# Altium footprint library ip_phone.PcbLib: 68 footprints (part 1 of 5)
Each footprint in its own frame and in the unit in brackets; x right, y up, seen from the top. Pads: shape width x height; smd on the part's side, far side on the other; paste and mask are expansions set on the pad; w line width, h text height; cw(c..) or ccw(c..) is an arc to the next point about the centre after c.
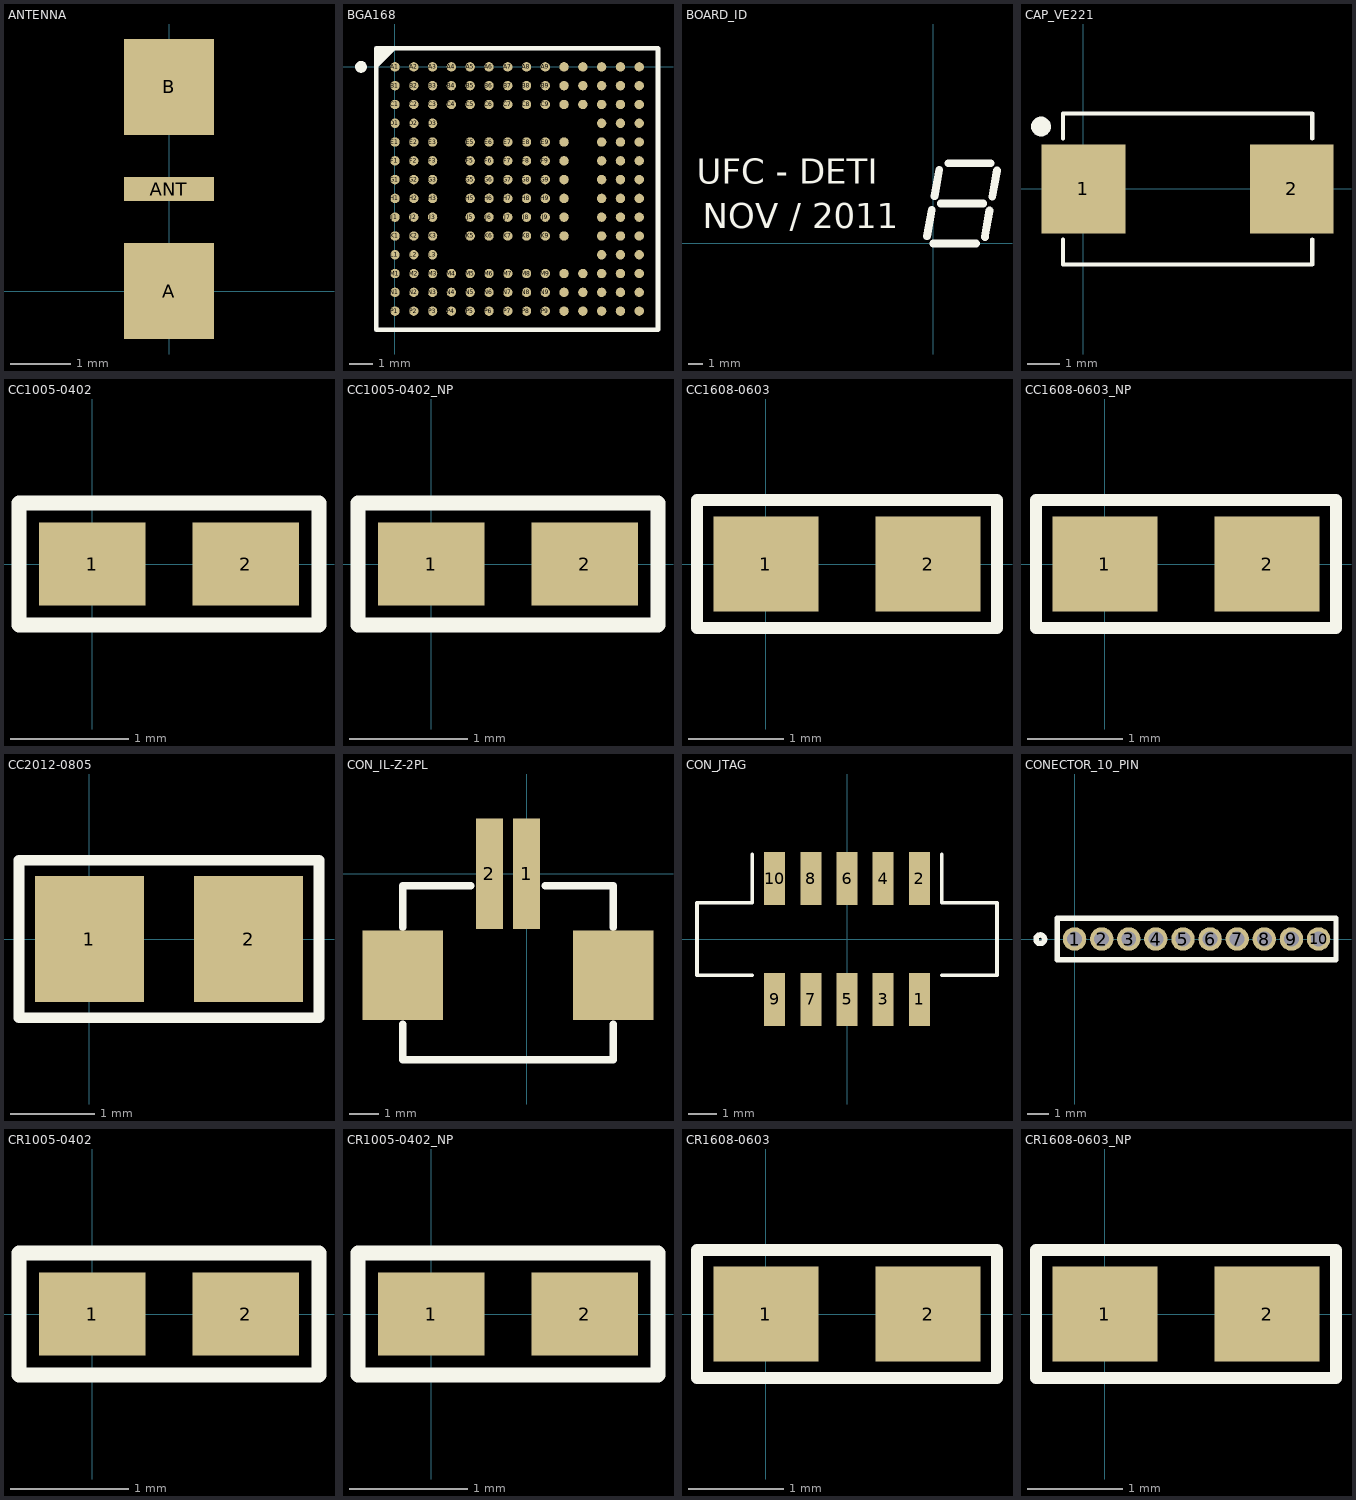
[diagram p0: the footprints below, top view; thin cyan lines are the x and y axes]

## ANTENNA [mm]
pads (3):
  rect 1.5x1.6 smd: A(0,0) B(0,3.4)
  rect 1.5x0.4 smd: ANT(0,1.7)

## BGA168 [mm] "BGA, 168-Leads, Body 12,0x12,0mm,  Pitch 0,80mm"
height 1.5
pads (168):
  round 0.4 smd: A1(0,0) A2(0.8,0) A3(1.6,0) A4(2.4,0) A5(3.2,0) A6(4,0) A7(4.8,0) A8(5.6,0) A9(6.4,0) A10(7.2,0) A11(8,0) A12(8.8,0) A13(9.6,0) A14(10.4,0) B1(0,-0.8) B2(0.8,-0.8) B3(1.6,-0.8) B4(2.4,-0.8) B5(3.2,-0.8) B6(4,-0.8) B7(4.8,-0.8) B8(5.6,-0.8) B9(6.4,-0.8) B10(7.2,-0.8) B11(8,-0.8) B12(8.8,-0.8) B13(9.6,-0.8) B14(10.4,-0.8) C1(0,-1.6) C2(0.8,-1.6) C3(1.6,-1.6) C4(2.4,-1.6) C5(3.2,-1.6) C6(4,-1.6) C7(4.8,-1.6) C8(5.6,-1.6) C9(6.4,-1.6) C10(7.2,-1.6) C11(8,-1.6) C12(8.8,-1.6) C13(9.6,-1.6) C14(10.4,-1.6) D1(0,-2.4) D2(0.8,-2.4) D3(1.6,-2.4) D12(8.8,-2.4) D13(9.6,-2.4) D14(10.4,-2.4) E1(0,-3.2) E2(0.8,-3.2) E3(1.6,-3.2) E5(3.2,-3.2) E6(4,-3.2) E7(4.8,-3.2) E8(5.6,-3.2) E9(6.4,-3.2) E10(7.2,-3.2) E12(8.8,-3.2) E13(9.6,-3.2) E14(10.4,-3.2) F1(0,-4) F2(0.8,-4) F3(1.6,-4) F5(3.2,-4) F6(4,-4) F7(4.8,-4) F8(5.6,-4) F9(6.4,-4) F10(7.2,-4) F12(8.8,-4) F13(9.6,-4) F14(10.4,-4) G1(0,-4.8) G2(0.8,-4.8) G3(1.6,-4.8) G5(3.2,-4.8) G6(4,-4.8) G7(4.8,-4.8) G8(5.6,-4.8) G9(6.4,-4.8) G10(7.2,-4.8) G12(8.8,-4.8) G13(9.6,-4.8) G14(10.4,-4.8) H1(0,-5.6) H2(0.8,-5.6) H3(1.6,-5.6) H5(3.2,-5.6) H6(4,-5.6) H7(4.8,-5.6) H8(5.6,-5.6) H9(6.4,-5.6) H10(7.2,-5.6) H12(8.8,-5.6) H13(9.6,-5.6) H14(10.4,-5.6) J1(0,-6.4) J2(0.8,-6.4) J3(1.6,-6.4) J5(3.2,-6.4) J6(4,-6.4) J7(4.8,-6.4) J8(5.6,-6.4) J9(6.4,-6.4) J10(7.2,-6.4) J12(8.8,-6.4) J13(9.6,-6.4) J14(10.4,-6.4) K1(0,-7.2) K2(0.8,-7.2) K3(1.6,-7.2) K5(3.2,-7.2) K6(4,-7.2) K7(4.8,-7.2) K8(5.6,-7.2) K9(6.4,-7.2) K10(7.2,-7.2) K12(8.8,-7.2) K13(9.6,-7.2) K14(10.4,-7.2) L1(0,-8) L2(0.8,-8) L3(1.6,-8) L12(8.8,-8) L13(9.6,-8) L14(10.4,-8) M1(0,-8.8) M2(0.8,-8.8) M3(1.6,-8.8) M4(2.4,-8.8) M5(3.2,-8.8) M6(4,-8.8) M7(4.8,-8.8) M8(5.6,-8.8) M9(6.4,-8.8) M10(7.2,-8.8) M11(8,-8.8) M12(8.8,-8.8) M13(9.6,-8.8) M14(10.4,-8.8) N1(0,-9.6) N2(0.8,-9.6) N3(1.6,-9.6) N4(2.4,-9.6) N5(3.2,-9.6) N6(4,-9.6) N7(4.8,-9.6) N8(5.6,-9.6) N9(6.4,-9.6) N10(7.2,-9.6) N11(8,-9.6) N12(8.8,-9.6) N13(9.6,-9.6) N14(10.4,-9.6) P1(0,-10.4) P2(0.8,-10.4) P3(1.6,-10.4) P4(2.4,-10.4) P5(3.2,-10.4) P6(4,-10.4) P7(4.8,-10.4) P8(5.6,-10.4) P9(6.4,-10.4) P10(7.2,-10.4) P11(8,-10.4) P12(8.8,-10.4) P13(9.6,-10.4) P14(10.4,-10.4)
Top Overlay:
  circle w0.25: c-1.45,0 r0.125
  region: -0.049,0.8 -0.8,0.049 -0.8,0.8
  lines w0.2: -0.8,0.049 -0.049,0.8 ; -0.8,-11.2 -0.8,0.8 11.2,0.8 11.2,-11.2 -0.8,-11.2
Mechanical 13:
  lines w0.1: -0.8,-11.2 -0.8,0.8 11.2,0.8 11.2,-11.2 -0.8,-11.2
3D body: height 1.5, standoff 0.29, extent -0.8,-11.2 11.2,0.8

## BOARD_ID [mm] "BOARD_ID"
Top Overlay:
  lines w0.55: -0.437,0.508 -0.107,2.362 ; 0,0 3,0 ; 0.088,3.334 0.419,5.188 ; 0.525,2.826 3.525,2.826 ; 1.051,5.652 4.051,5.652 ; 3.632,0.464 3.962,2.318 ; 4.158,3.29 4.488,5.144
  text "NOV / 2011" at -16.246,0.478 h3
  text "UFC - DETI" at -16.642,3.599 h3

## CAP_VE221 [mm] "Electrolytic Capacitor 220uF"
height 5.3
pads (2):
  rect 2.55x2.7 smd: 1(0,0) 2(6.35,0)
Top Overlay:
  circle w0.3: c-1.295,1.905 r0.152
  lines w0.127: -0.625,-1.539 -0.625,-2.3 6.975,-2.3 6.975,-1.539 ; -0.625,1.539 -0.625,2.3 6.975,2.3 6.975,1.539

## CC1005-0402 [mm] "Chip Capacitor; Body 1.0 x 0.5 mm (LxW typ)"
height 1.35
pads (2):
  rect 0.9x0.7 smd: 1(0,0) 2(1.3,0)
Top Overlay:
  lines w0.127: -0.62,-0.518 1.92,-0.518 1.92,0.518 -0.62,0.518 -0.62,-0.518
3D body: height 0.5, standoff 0, extent 0.15,-0.25 1.15,0.25

## CC1005-0402_NP [mm] "Chip Capacitor; Body 1.0 x 0.5 mm (LxW typ)"
height 1.35
pads (2):
  rect 0.9x0.7 smd: 1(0,0) 2(1.3,0)
Top Overlay:
  lines w0.127: -0.62,-0.518 1.92,-0.518 1.92,0.518 -0.62,0.518 -0.62,-0.518

## CC1608-0603 [mm] "Chip Capacitor; Body 1.6 x 0.8 mm (LxW typ)"
height 1.35
pads (2):
  rect 1.1x1 smd: 1(0,0) 2(1.7,0)
Top Overlay:
  lines w0.127: -0.721,-0.671 -0.721,0.671 2.421,0.671 2.421,-0.671 -0.721,-0.671
3D body: height 0.3, standoff 0, extent 0.05,-0.4 1.65,0.4

## CC1608-0603_NP [mm] "Chip Capacitor; Body 1.6 x 0.8 mm (LxW typ)"
height 1.35
pads (2):
  rect 1.1x1 smd: 1(0,0) 2(1.7,0)
Top Overlay:
  lines w0.127: -0.721,-0.671 -0.721,0.671 2.421,0.671 2.421,-0.671 -0.721,-0.671

## CC2012-0805 [mm] "Chip Capacitor; Body 2.0 x 1.2 mm (LxW typ)"
height 1.1
pads (2):
  rect 1.3x1.5 smd: 1(0,0) 2(1.9,0)
Top Overlay:
  lines w0.127: -0.838,-0.94 -0.838,0.94 2.738,0.94 2.738,-0.94 -0.838,-0.94

## CON_IL-Z-2PL [mm] "Connector"
pads (4):
  rect 0.9x3.7 smd: 1(0,0) 2(-1.25,0)
  rect 2.7x3 smd: ""(-4.15,-3.404) ""(2.9,-3.404)
Top Overlay:
  lines w0.254: -4.15,-5.055 -4.15,-6.234 2.9,-6.234 2.9,-5.055 ; -4.15,-1.804 -4.15,-0.404 ; -4.15,-0.402 -1.87,-0.402 ; 0.62,-0.402 2.9,-0.402 ; 2.9,-1.804 2.9,-0.404

## CON_JTAG [mm]
pads (10):
  rect 0.74x1.85 smd: 1(2.54,-2.125) 2(2.54,2.125) 3(1.27,-2.125) 4(1.27,2.125) 5(0,-2.125) 6(0,2.125) 7(-1.27,-2.125) 8(-1.27,2.125) 9(-2.54,-2.125) 10(-2.54,2.125)
Top Overlay:
  lines w0.127: -3.327,-1.27 -5.27,-1.27 -5.27,1.27 -3.327,1.27 -3.327,2.972 ; 3.327,-1.27 5.27,-1.27 5.27,1.27 3.327,1.27 3.327,2.972

## CONECTOR_10_PIN [mm]
pads (10):
  round 1.1 hole 0.7: 1(0,0) 2(1.27,0) 3(2.54,0) 4(3.81,0) 5(5.08,0) 6(6.35,0) 7(7.62,0) 8(8.89,0) 9(10.16,0) 10(11.43,0)
Top Overlay:
  circle w0.254: c-1.605,-0.01 r0.201
  lines w0.254: -0.818,-0.975 12.248,-0.975 12.248,0 12.248,0.975 -0.818,0.975 -0.818,0 -0.818,-0.975

## CR1005-0402 [mm] "Chip Resistor; Body 1.1 x 0.5 mm (LxW typ)"
height 2.54
pads (2):
  rect 0.9x0.7 smd: 1(0,0) 2(1.3,0)
Top Overlay:
  lines w0.127: -0.62,-0.518 -0.62,0.518 1.92,0.518 1.92,-0.518 -0.62,-0.518
3D body: height 0.2, standoff 0, extent 0.15,-0.3 1.15,0.3

## CR1005-0402_NP [mm] "Chip Resistor; Body 1.1 x 0.5 mm (LxW typ)"
height 2.54
pads (2):
  rect 0.9x0.7 smd: 1(0,0) 2(1.3,0)
Top Overlay:
  lines w0.127: -0.62,-0.518 1.92,-0.518 1.92,0.518 -0.62,0.518 -0.62,-0.518

## CR1608-0603 [mm] "Chip Resistor; Body 1.6 x 0.8 mm (LxW typ)"
height 1.35
pads (2):
  rect 1.1x1 smd: 1(0,0) 2(1.7,0)
Top Overlay:
  lines w0.127: -0.721,-0.671 2.421,-0.671 2.421,0.671 -0.721,0.671 -0.721,-0.671
3D body: height 0.3, standoff 0, extent 0.05,-0.4 1.65,0.4

## CR1608-0603_NP [mm] "Chip Resistor; Body 1.6 x 0.8 mm (LxW typ)"
height 1.35
pads (2):
  rect 1.1x1 smd: 1(0,0) 2(1.7,0)
Top Overlay:
  lines w0.127: -0.721,-0.671 -0.721,0.671 2.421,0.671 2.421,-0.671 -0.721,-0.671